# EAGLE library part TEXAS_INSTRUMENTS-SENSOR-TMP100_DBV_6 (library Module_ICs)
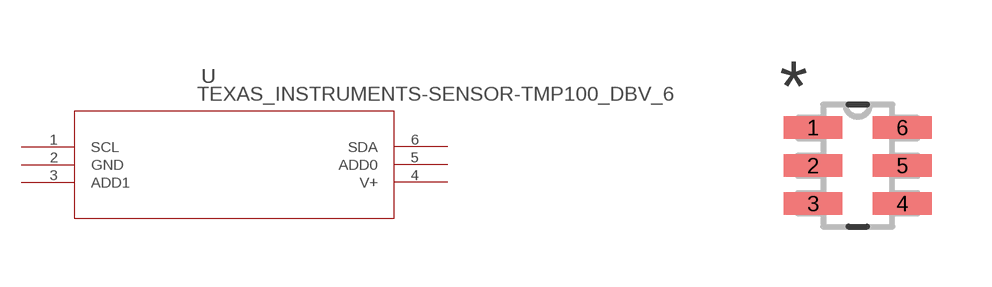
[diagram p41: symbol with the pads of TEXAS_INSTRUMENTS-SENSOR-TMP100_DBV_6; footprint TEXAS_INSTRUMENTS-SENSOR-TMP100_DBV_6]

Designator prefix U

## TEXAS_INSTRUMENTS-SENSOR-TMP100_DBV_6 (DATASHEETURL: httpwww.ti.comlitgpnTMP100; FAMILY_NAME: TEMPERATURE SENSOR; GENERIC_PART_NUMBER: TMP100; INDUSTRY_STD_PKG_TYPE: SOT23; MANUFACTURER: Texas Instruments; MANUFACTURER_PART_NUMBER: tmp100_dbv_6; PACKAGE_DESIGNATOR: DBV; PIN_COUNT: 6; VENDOR: Texas Instruments)  [TEXAS_INSTRUMENTS-SENSOR-TMP100_DBV_6]
1  SCL  pas
2  GND  pwr
3  ADD1  pas
4  V+  pwr
5  ADD0  pas
6  SDA  pas

## Footprint TEXAS_INSTRUMENTS-SENSOR-TMP100_DBV_6 (pad centres in mm)
smd 1.473 x 0.559: 1 -1.118,0.95; 2 -1.118,0; 3 -1.118,-0.95; 4 1.118,-0.95; 5 1.118,0; 6 1.118,0.95